# EAGLE library part LT1997*DF-2 (library LT1997)
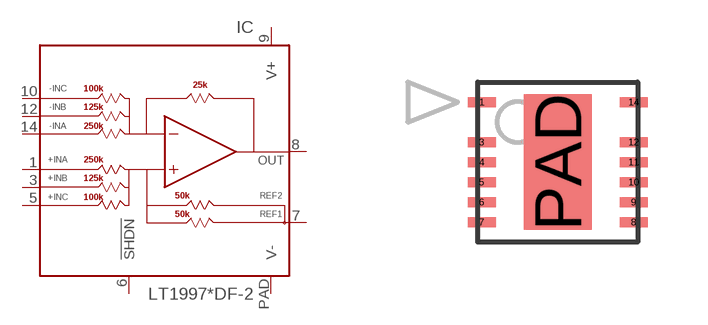
[diagram p0: symbol with the pads of DF; footprint DF]

Designator prefix IC

## LT1997HDF-2 (MARK: 19972; MF: Analog Devices; MPN: LT1997HDF-2#PBF), LT1997IDF-2 (MARK: 19972; MF: Analog Devices; MPN: LT1997IDF-2#PBF)  [DF]
1  +INA  in
3  +INB  in
5  +INC  in
6  !SHDN  in
7  REF1
8  OUT  out
9  V+  pwr
10  -INC  in
12  -INB  in
14  -INA  in
PAD  V-  pwr

## Footprint DF (pad centres in mm)
smd 0.7 x 0.25: 1 -1.9,1.5; 3 -1.9,0.5; 4 -1.9,0; 5 -1.9,-0.5; 6 -1.9,-1; 7 -1.9,-1.5; 8 1.9,-1.5; 9 1.9,-1; 10 1.9,-0.5; 11 1.9,0; 12 1.9,0.5; 14 1.9,1.5
smd 1.7 x 3.38: PAD 0,0